# EAGLE library part LPJ0011BBNL (library LPJ0011BBNL)
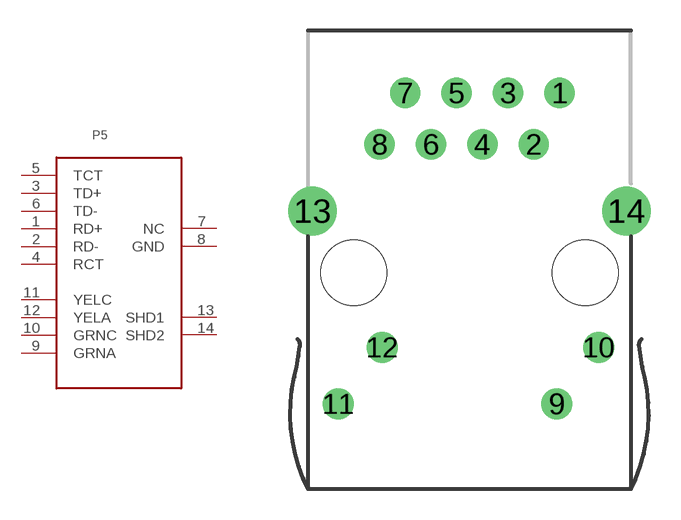
[diagram p0: symbol with the pads of LPJ0011BBNL; footprint LPJ0011BBNL]

Designator prefix -

## LPJ0011BBNL  [LPJ0011BBNL]
1  RD+
2  RD-
3  TD+
4  RCT
5  TCT
6  TD-
7  NC
8  GND
9  GRNA
10  GRNC
11  YELC
12  YELA
13  SHD1
14  SHD2

## Footprint LPJ0011BBNL (pad centres in mm)
drill 0.9 pad 1.5: 1 -4.445,7.112; 2 -5.715,4.572; 3 -6.985,7.112; 4 -8.255,4.572; 5 -9.525,7.112; 6 -10.795,4.572; 7 -12.065,7.112; 8 -13.335,4.572
drill 1.02 pad 1.5: 9 -4.572,-8.255; 10 -2.515,-5.461; 11 -15.367,-8.255; 12 -13.208,-5.461
drill 1.6 pad 2.2: 13 -16.637,1.27; 14 -1.143,1.27
hole 3.251 at -14.605,-1.778
hole 3.251 at -3.175,-1.778